# Altium integrated library Infineon_Transceiver.IntLib: 31 symbols (part 1 of 2)
Pins are listed as number, name and electrical type; pins without a type are passive.

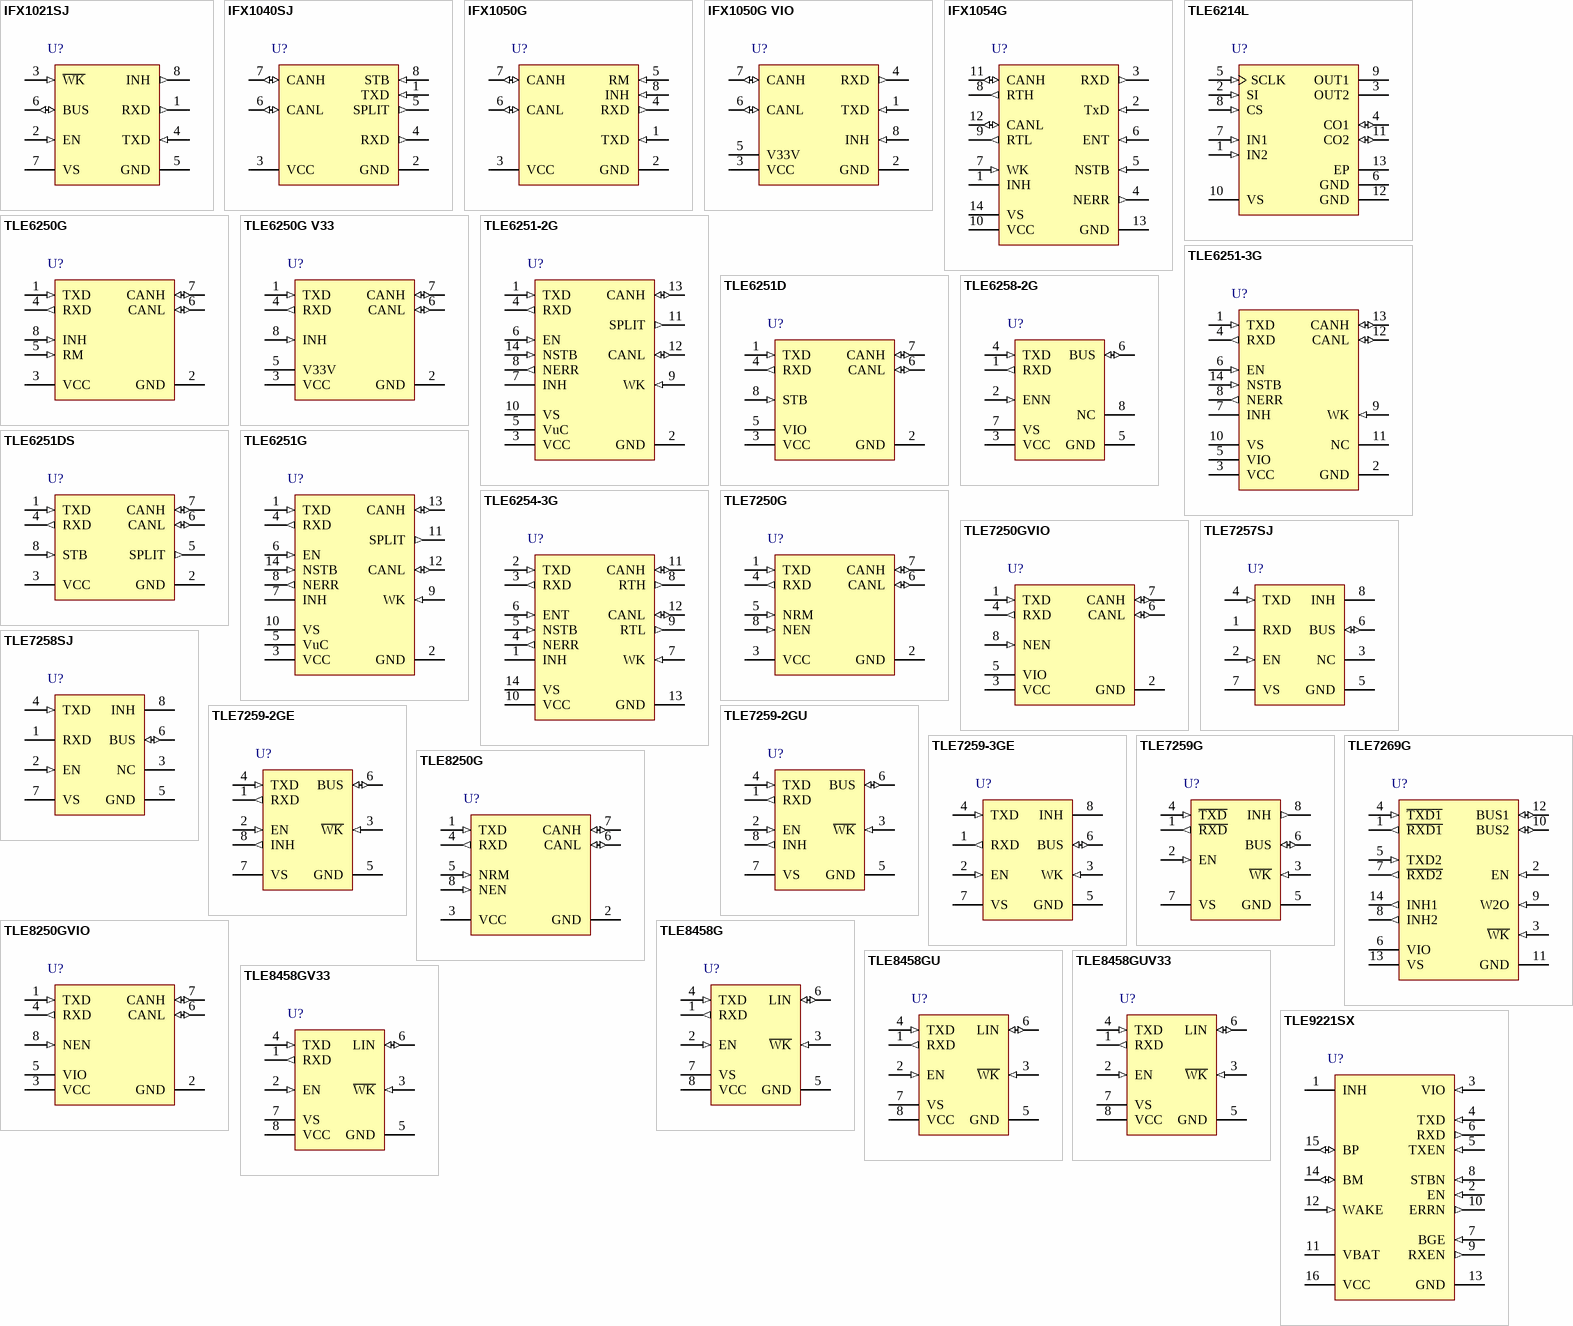
[diagram p0: symbols IFX1021SJ to TLE9221SX]

## IFX1021SJ
designator U?
LIN Transceiver, PG-DSO-8-16, Reel, Green; Manufacturer: Infineon; PartNumber: IFX1021SJ; Additional Features: INH, EN, WK; Bus Wake-up capability: TRUE; Max Number Reflow: 3; Max Peak Reflow Temp: 260 degC; Standards: LIN 1.2, 1.3, 2.0, 2.1; Transmission rate max: 20 kbit/s; Wake-up inputs: Bus wake-up + wake-up pin; DatasheetVersion: Rev. 1.0; PackageVersion: Mar-07; PackageReference: PG-DSO-8-16; PackageDescription: 8-Pin Plastic (Green) Dual Small Outline Package, 4.9 x 3.9 mm Body, 1.27 mm Pitch; Supplier 1: Mouser; Supplier Part Number 1: 726-IFX1021SJ; Supplier 2: Digi-Key; Supplier Part Number 2: IFX1021SJINTR-ND; Supplier 3: Digi-Key; Supplier Part Number 3: IFX1021SJINCT-ND; Supplier 4: Digi-Key; Supplier Part Number 4: IFX1021SJINDKR-ND; Green: TRUE; Halogen-free: TRUE; MSL: 3; Packing: Reel; Mounting Technology: Surface Mount; ComponentLink1Description: Manufacturer URL; ComponentLink1URL: http://www.infineon.com/; ComponentLink2Description: Datasheet; ComponentLink2URL: http://www.infineon.com/dgdl/IFX1021_DS_10.pdf?folderId=db3a30431ed1d7b2011edadb13813703&fileId=db3a304332b626b80132cf46319e674e; ComponentLink3Description: Package Specification; ComponentLink3URL: http://www.infineon.com/dgdl/TLE7259-2GE_DS_rev12.pdf?folderId=db3a3043163797a6011666d32a0c0de1&fileId=db3a3043163797a6011666d4dbb80de2&location=en.Products.Automotive_ICs.Automotive_Transceivers.LIN_Transceivers.DATASHEET.TLE7259-2GE_DS_rev12.pdf
footprint INF-PG-DSO-8-16_N (SOP, 8-Leads, Body 4.9x3.9mm, Pitch 1.27mm, IPC Medium Density)
footprint INF-PG-DSO-8-16_L (SOP, 8-Leads, Body 4.9x3.9mm, Pitch 1.27mm, IPC High Density)
footprint INF-PG-DSO-8-16_M (SOP, 8-Leads, Body 4.9x3.9mm, Pitch 1.27mm, IPC Low Density)
pins: 1 RXD (out) "Receive data output;", 2 EN (in) "Enable input;", 3 ~{WK} (in) "Wake input;", 4 TXD (in) "Transmit data input;", 5 GND (power) "Ground", 6 BUS (io) "Bus input / output;", 7 VS (power) "Supply input (e.g. battery, ACDC, DCDC, etc)", 8 INH (out) "Inhibit output;"

## IFX1040SJ
designator U?
High Speed CAN-Transceiver with Stand-By Mode and Bus Wake-up, PG-DSO-8-3, Reel, Green; Manufacturer: Infineon; PartNumber: IFX1040SJ; Additional Features: STB, WK, SPLIT; Bus Wake-up capability: TRUE; Max Number Reflow: 3; Max Peak Reflow Temp: 260 degC; Standards: ISO 11898-2/ISO11898-5; Transmission rate max: 1 Mbit/s; DatasheetVersion: Rev. 1.0; PackageReference: PG-DSO-8-3; PackageDescription: 8-Pin Plastic (Green) Dual Small Outline Package, 4.9 x 3.9 mm Body, 1.27 mm Pitch; Supplier 1: Digi-Key; Supplier Part Number 1: IFX1040SJTR-ND; Supplier 2: Digi-Key; Supplier Part Number 2: IFX1040SJCT-ND; Supplier 3: Digi-Key; Supplier Part Number 3: IFX1040SJDKR-ND; Green: TRUE; Halogen-free: TRUE; MSL: 3; Packing: Reel; Wake-up inputs: Bus wake-up; Mounting Technology: Surface Mount; ComponentLink1Description: Manufacturer URL; ComponentLink1URL: http://www.infineon.com/; ComponentLink2Description: Datasheet; ComponentLink2URL: http://www.infineon.com/dgdl/IFX1040_DS_10.pdf?folderId=db3a30431ed1d7b2011edadb13813703&fileId=db3a3043337a914d0133887bf12f10f8; ComponentLink3Description: Package Specification; ComponentLink3URL: http://www.infineon.com/cms/packages/SMD_-_Surface_Mounted_Devices/P-PG-DSO/P-PG-DSO-08-03x_-6x_-7x_-8x_-10x_-13x_-15x_-18x_-19x_-20x_-23.html?__locale=en
footprint INF-PG-DSO-8-3_N (SOP, 8-Leads, Body 4.9x3.9mm, Pitch 1.27mm, IPC Medium Density)
footprint INF-PG-DSO-8-3_L (SOP, 8-Leads, Body 4.9x3.9mm, Pitch 1.27mm, IPC High Density)
footprint INF-PG-DSO-8-3_M (SOP, 8-Leads, Body 4.9x3.9mm, Pitch 1.27mm, IPC Low Density)
pins: 1 TXD (in) "CAN transmit data input; 20 kohm pull-up, LOW in dominant state", 2 GND (power) "Ground", 3 VCC (power) "5 V Supply input; 100 nF decoupling capacitor required", 4 RXD (out) "CAN receive data output; LOW in dominant state,", 5 SPLIT (out) "Split termination output; to support the recessive voltage level of the bus lines", 6 CANL (io) "Low line I/O; LOW in dominant state", 7 CANH (io) "High line I/O; HIGH in dominant state", 8 STB (in) "Mode Control Input; Internal pull-up"

## IFX1050G
designator U?
High Speed CAN-Transceiver, PG-DSO-8-16, Reel, Green; Manufacturer: Infineon; PartNumber: IFX1050G; Additional Features: RM, INH; Bus Wake-up capability: FALSE; Green: TRUE; Max Number Reflow: 3; Max Peak Reflow Temp: 260 degC; Standards: ISO11898-2; Transmission rate max: 1 Mbit/s; DatasheetVersion: Rev. 1.0; PackageVersion: Mar-07; PackageReference: PG-DSO-8-16; PackageDescription: 8-Pin Plastic (Green) Dual Small Outline Package, 4.9 x 3.9 mm Body, 1.27 mm Pitch; Supplier 1: Mouser; Supplier Part Number 1: 726-IFX1050G; Supplier 2: Digi-Key; Supplier Part Number 2: IFX1050GINTR-ND; Supplier 3: Digi-Key; Supplier Part Number 3: IFX1050GINCT-ND; Supplier 4: Digi-Key; Supplier Part Number 4: IFX1050GINDKR-ND; Halogen-free: TRUE; MSL: 3; Packing: Reel; Wake-up inputs: FALSE; Mounting Technology: Surface Mount; ComponentLink1Description: Manufacturer URL; ComponentLink1URL: http://www.infineon.com/; ComponentLink2Description: Datasheet; ComponentLink2URL: http://www.infineon.com/dgdl/IFX1050G_DS_rev10.pdf?folderId=db3a30431ed1d7b2011edadb13813703&fileId=db3a304320d39d590121f374ea660d66; ComponentLink3Description: Package Specification; ComponentLink3URL: http://www.infineon.com/dgdl/TLE7259-2GE_DS_rev12.pdf?folderId=db3a3043163797a6011666d32a0c0de1&fileId=db3a3043163797a6011666d4dbb80de2&location=en.Products.Automotive_ICs.Automotive_Transceivers.LIN_Transceivers.DATASHEET.TLE7259-2GE_DS_rev12.pdf
footprint INF-PG-DSO-8-16_N (SOP, 8-Leads, Body 4.9x3.9mm, Pitch 1.27mm, IPC Medium Density)
footprint INF-PG-DSO-8-16_L (SOP, 8-Leads, Body 4.9x3.9mm, Pitch 1.27mm, IPC High Density)
footprint INF-PG-DSO-8-16_M (SOP, 8-Leads, Body 4.9x3.9mm, Pitch 1.27mm, IPC Low Density)
pins: 1 TXD (in) "CAN transmit data input; 20 kohm pull - up, “LOW” in dominant state", 2 GND (power) "Ground", 3 VCC (power) "5 V Supply input", 4 RXD (out) "CAN receive data output; “LOW” in dominant state, integrated pull - up", 5 RM (in) "Receive - Only input; control input, integrated 20 kohm pull - up, “LOW” to activate Receive - Only Mode", 6 CANL (io) "Low line I/O; “LOW” in dominant state", 7 CANH (io) "High line I/O; “HIGH” in dominant state", 8 INH (in) "Inhibit Input; control input, 20 kohm pull - up, “LOW” to activate Normal Mode"

## IFX1050G VIO
designator U?
High Speed CAN-Transceiver, PG-DSO-8-3, Reel, Green; Manufacturer: Infineon; PartNumber: IFX1050G VIO; Additional Features: INH; Bus Wake-up capability: FALSE; Green: TRUE; Max Number Reflow: 3; Max Peak Reflow Temp: 260 degC; Standards: ISO/DIS 11898; Transmission rate max: 1 Mbit/s; DatasheetVersion: Rev. 1.0; PackageReference: PG-DSO-8-3; PackageDescription: 8-Pin Plastic (Green) Dual Small Outline Package, 4.9 x 3.9 mm Body, 1.27 mm Pitch; Supplier 1: Mouser; Supplier Part Number 1: 726-IFX1050GVIO; Supplier 2: Digi-Key; Supplier Part Number 2: IFX1050G VIOINTR-ND; Supplier 3: Digi-Key; Supplier Part Number 3: IFX1050G VIOINCT-ND; Supplier 4: Digi-Key; Supplier Part Number 4: IFX1050G VIOINDKR-ND; Halogen-free: TRUE; MSL: 3; Packing: Reel; Wake-up inputs: FALSE; Mounting Technology: Surface Mount; ComponentLink1Description: Manufacturer URL; ComponentLink1URL: http://www.infineon.com/; ComponentLink2Description: Datasheet; ComponentLink2URL: http://www.infineon.com/dgdl/IFX1050GVIO_DS_10.pdf?folderId=db3a30431ed1d7b2011edadb13813703&fileId=db3a304330f68606013141d8eac7569f; ComponentLink3Description: Package Specification; ComponentLink3URL: http://www.infineon.com/cms/packages/SMD_-_Surface_Mounted_Devices/P-PG-DSO/P-PG-DSO-08-03x_-6x_-7x_-8x_-10x_-13x_-15x_-18x_-19x_-20x_-23.html?__locale=en
footprint INF-PG-DSO-8-3_N (SOP, 8-Leads, Body 4.9x3.9mm, Pitch 1.27mm, IPC Medium Density)
footprint INF-PG-DSO-8-3_L (SOP, 8-Leads, Body 4.9x3.9mm, Pitch 1.27mm, IPC High Density)
footprint INF-PG-DSO-8-3_M (SOP, 8-Leads, Body 4.9x3.9mm, Pitch 1.27mm, IPC Low Density)
pins: 1 TXD (in) "CAN transmit data input; 20 kohm pull-up, LOW in dominant state", 2 GND (power) "Ground", 3 VCC (power) "5 V Supply input", 4 RXD (out) "CAN receive data output; LOW in dominant state,integrated pull-up", 5 V33V (power) "Logic supply input; 3.3V or 5V microcontroller logic supply can be connected here! Thedigital I/Os of the IFX1050GVIO adopt to the connected microcontroller logic supply a V33V", 6 CANL (io) "Low line I/O; LOW in dominant state", 7 CANH (io) "High line I/O; HIGH in dominant state", 8 INH (in) "Inhibit Input; control input, 20 kohm pull, set LOW for normal mode"

## IFX1054G
designator U?
Fault Tolerant Low Speed CAN-Transceiver, PG-DSO-14-1, Reel, Green; Manufacturer: Infineon; PartNumber: IFX1054G; Additional Features: INH, NERR, NSTB, ENT, WK, RTL, RTH; Bus Wake-up capability: TRUE; Max Number Reflow: 3; Max Peak Reflow Temp: 260 degC; Standards: ISO11898-3; Transmission rate max: 125 kbit/s; Wake-up inputs: Bus wake-up + wake-up pin; DatasheetVersion: Rev. 1.0; PackageVersion: Apr-11; PackageReference: PG-DSO-14-1; PackageDescription: 14-Pin Plastic (Green) Dual Small Outline Package, 8.65 x 3.9 mm Body, 1.27 mm Pitch; Supplier 1: Mouser; Supplier Part Number 1: 726-IFX1054G; Supplier 2: Digi-Key; Supplier Part Number 2: IFX1054GINTR-ND; Supplier 3: Digi-Key; Supplier Part Number 3: IFX1054GINCT-ND; Supplier 4: Digi-Key; Supplier Part Number 4: IFX1054GINDKR-ND; Green: TRUE; Halogen-free: TRUE; MSL: 3; Packing: Reel; Mounting Technology: Surface Mount; ComponentLink1Description: Manufacturer URL; ComponentLink1URL: http://www.infineon.com/; ComponentLink2Description: Datasheet; ComponentLink2URL: http://www.infineon.com/dgdl/IFX1054_DS_rev10.pdf?folderId=db3a30431ed1d7b2011edadb13813703&fileId=db3a304320d39d590121f37681d90d6b; ComponentLink3Description: Package Specification; ComponentLink3URL: http://www.infineon.com/dgdl/DCDC-Controller-IFX80471-Data-Sheet-V10-Infineon.pdf?folderId=db3a304314dca3890115039cf70d0bf0&fileId=db3a30432e398416012e487ec6e42599
footprint INF-PG-DSO-14-1_N (SOP, 14-Leads, Body 8.65x3.9mm, Pitch 1.27mm, IPC Medium Density)
footprint INF-PG-DSO-14-1_L (SOP, 14-Leads, Body 8.65x3.9mm, Pitch 1.27mm, IPC High Density)
footprint INF-PG-DSO-14-1_M (SOP, 14-Leads, Body 8.65x3.9mm, Pitch 1.27mm, IPC Low Density)
pins: 1 INH (hiz) "Inhibit output; for controlling an external voltage regulator", 2 TxD (in) "Transmit data input; integrated pull -up, LOW: bus becomes dominant, HIGH: bus becomes recessive", 3 RXD (out) "Receive data output; integrated pull -up, LOW: bus is dominant, HIGH: bus is recessive", 4 NERR (out) "Error flag output; integrated pull -up, LOW: bus error (in Normal operation mode), further functions see Table 1", 5 NSTB (in) "Not stand-by input; digital control input to select operation modes, see Figure 3", 6 ENT (in) "Enable transfer input; digital control input to select operation modes, see Figure 3", 7 WK (in) "Wake -Up input; if level of VWAKE changes the device indicates a Wake -up from lowpower mode by switching the RxD output LOW and switching the INH output HIGH (in Sleep mode), see Table 1", 8 RTH (out) "Termination resistor output; connected to CANH bus-line via termination resistor (500 kohm < RRTH < 16 kkohm), controlled by internal failure management", 9 RTL (out) "Termination resistor output; connected to CANL bus-line via termination resistor (500 kohm < RRTL < 16 kkohm), controlled by internal failure and mode management", 10 VCC (power) "Supply voltage input; +5 V, block to GND directly at the IC with ceramic capacitor", 11 CANH (io) "CAN bus line H; HIGH: dominant state", 12 CANL (io) "CAN bus line L; LOW: dominant state", 13 GND (power) "Ground", 14 VS (power) "Voltage supply input; block to GND directly at the IC with ceramic capacitor"

## TLE6214L
designator U?
Smart Dual Current Sense Switch , -40 to 150 degC, PG-DSO-12-4, Reel, Green; Manufacturer: Infineon; PartNumber: TLE6214L; Green: TRUE; DatasheetVersion: Rev. 3.0; PackageVersion: Sep-08; PackageReference: PG-DSO-12-4; PackageDescription: 12-Pin Plastic (Green) Dual Small Outline Package, 6.4 x 7.5 mm Body, 1 mm Pitch; Supplier 1: Mouser; Supplier Part Number 1: N/A; Supplier 2: Digi-Key; Supplier Part Number 2: TLE6214L-ND; Halogen-free: TRUE; Packing: Reel; Mounting Technology: Surface Mount; ComponentLink1Description: Manufacturer URL; ComponentLink1URL: http://www.infineon.com/; ComponentLink2Description: Datasheet; ComponentLink2URL: http://www.infineon.com/dgdl/TLE6214L_V3_10_18_2004_final.pdf?folderId=db3a30431441fb5d0114ad10c65b1537&fileId=db3a304314dca3890114df1af9110010&sId=db3a30443d67b5ca013d7f4959342b74; ComponentLink3Description: Package Specification; ComponentLink3URL: http://www.infineon.com/dgdl/TLE4473GV52-53_DS_11%5B1%5D.pdf?folderId=db3a30431ff988150120802bce1d257a&fileId=db3a30431ff988150120802d92102580&location=en.Products.Automotive_ICs.Linear_Voltage_Regulators_for_Automotive-Applications.Linear_Voltage_Regulators_-_Selection_Table.DATASHEET.TLE4473GV52-53_DS_11[1].pdf
footprint INF-PG-DSO-12-4_N (SOP, 12-Leads, Body 7.5x6.4mm, Pitch 1mm, Thermal Pad 7.9x4.3mm, IPC Medium Density)
footprint INF-PG-DSO-12-4_L (SOP, 12-Leads, Body 7.5x6.4mm, Pitch 1mm, Thermal Pad 7.9x4.3mm, IPC High Density)
footprint INF-PG-DSO-12-4_M (SOP, 12-Leads, Body 7.5x6.4mm, Pitch 1mm, Thermal Pad 7.9x4.3mm, IPC Low Density)
pins: 1 IN2 (in) "Input Channel 2", 2 SI (in) "SPI Signal In", 3 OUT2 (power) "Power Output Channel 2", 4 CO1 (io) "Current Sense 1/2 / Fault / Status Ch1", 5 SCLK (in) "SPI Clock", 6 GND (power) "Ground", 7 IN1 (in) "Input Channel 1", 8 CS (in) "SPI Chip Select", 9 OUT1 (power) "Power Output Channel 1", 10 VS (power) "Supply Voltage", 11 CO2 (io) "SPI Signal Out / Status Ch2", 12 GND (power) "Ground", 13 EP (power) "Both GND pins and heat sink must be  connected to GND externally."

## TLE6250G
designator U?
High Speed CAN-Transceiver, 1 Mbit/s Transmission Rate, PG-DSO-8-16, Reel, Green; Manufacturer: Infineon; PartNumber: TLE6250G; Bus Wake-up capability: FALSE; Green: TRUE; Quiescent Current (max.): < 10 uA @ 5V standby; Standards: ISO11898-2; Wake-up inputs: no; DatasheetVersion: Rev. 4.0; PackageVersion: Mar-07; PackageReference: PG-DSO-8-16; PackageDescription: 8-Pin Plastic (Green) Dual Small Outline Package, 4.9 x 3.9 mm Body, 1.27 mm Pitch; Supplier 1: Mouser; Supplier Part Number 1: 726-TLE6250GX; Supplier 2: Newark; Supplier Part Number 2: 79X2064; Supplier 3: Farnell; Supplier Part Number 3: 2432693; Supplier 4: Farnell; Supplier Part Number 4: 2432693RL; Supplier 5: Digi-Key; Supplier Part Number 5: TLE6250GINTR-ND; Supplier 6: Digi-Key; Supplier Part Number 6: TLE6250GINCT-ND; Supplier 7: Digi-Key; Supplier Part Number 7: TLE6250GINDKR-ND; Group: High Speed; Halogen-free: TRUE; Packing: Reel; Transmission rate max: 1 Mbit/s; Mounting Technology: Surface Mount; ComponentLink1Description: Manufacturer URL; ComponentLink1URL: http://www.infineon.com/; ComponentLink2Description: Datasheet; ComponentLink2URL: http://www.infineon.com/dgdl/TLE6250G_DS_rev40_Green%5B1%5D.pdf?folderId=db3a30431ed1d7b2011edadb13813703&fileId=db3a30431ed1d7b2011edadbb20d3704&location=en.Products.Automotive_ICs.Automotive_Transceivers.CAN_Transceivers.DATASHEET.TLE6250G_DS_rev40_Green[1].pdf; ComponentLink3Description: Package Specification; ComponentLink3URL: http://www.infineon.com/dgdl/TLE7259-2GE_DS_rev12.pdf?folderId=db3a3043163797a6011666d32a0c0de1&fileId=db3a3043163797a6011666d4dbb80de2&location=en.Products.Automotive_ICs.Automotive_Transceivers.LIN_Transceivers.DATASHEET.TLE7259-2GE_DS_rev12.pdf
footprint INF-PG-DSO-8-16_N (SOP, 8-Leads, Body 4.9x3.9mm, Pitch 1.27mm, IPC Medium Density)
footprint INF-PG-DSO-8-16_L (SOP, 8-Leads, Body 4.9x3.9mm, Pitch 1.27mm, IPC High Density)
footprint INF-PG-DSO-8-16_M (SOP, 8-Leads, Body 4.9x3.9mm, Pitch 1.27mm, IPC Low Density)
pins: 1 TXD (in) "CAN transmit data input; 20 k ohm pull-up, LOW in dominant state", 2 GND (power) "Ground", 3 VCC (power) "5 V Supply input", 4 RXD (out) "CAN receive data output; LOW in dominant state,integrated pull-up", 5 RM (in) "Receive-only input; control input, 20 k ohm pull-up, set low to activate RxD-only mode", 6 CANL (io) "Low line I/O; LOW in dominant state", 7 CANH (io) "High line I/O; HIGH in dominant state", 8 INH (in) "Inhibit Input; control input, 20 k ohm pull, set LOW for normal mode"

## TLE6250G V33
designator U?
High Speed CAN-Transceiver, 1 Mbit/s Transmission Rate, PG-DSO-8-16, Reel, Green; Manufacturer: Infineon; PartNumber: TLE6250G V33; Bus Wake-up capability: FALSE; Green: TRUE; Quiescent Current (max.): < 10 uA @ 5V standby; Standards: ISO11898-2; Wake-up inputs: no; DatasheetVersion: Rev. 4.0; PackageVersion: Mar-07; PackageReference: PG-DSO-8-16; PackageDescription: 8-Pin Plastic (Green) Dual Small Outline Package, 4.9 x 3.9 mm Body, 1.27 mm Pitch; Supplier 1: Mouser; Supplier Part Number 1: 726-TLE6250GV33; Supplier 2: Newark; Supplier Part Number 2: 79X2065; Supplier 3: Farnell; Supplier Part Number 3: 2432692RL; Supplier 4: Farnell; Supplier Part Number 4: 2432692; Supplier 5: Digi-Key; Supplier Part Number 5: TLE6250GV33INTR-ND; Supplier 6: Digi-Key; Supplier Part Number 6: TLE6250GV33INCT-ND; Supplier 7: Digi-Key; Supplier Part Number 7: TLE6250GV33INDKR-ND; Group: High Speed; Halogen-free: TRUE; Packing: Reel; Transmission rate max: 1 Mbit/s; Mounting Technology: Surface Mount; ComponentLink1Description: Manufacturer URL; ComponentLink1URL: http://www.infineon.com/; ComponentLink2Description: Datasheet; ComponentLink2URL: http://www.infineon.com/dgdl/TLE6250G_DS_rev40_Green%5B1%5D.pdf?folderId=db3a30431ed1d7b2011edadb13813703&fileId=db3a30431ed1d7b2011edadbb20d3704&location=en.Products.Automotive_ICs.Automotive_Transceivers.CAN_Transceivers.DATASHEET.TLE6250G_DS_rev40_Green[1].pdf; ComponentLink3Description: Package Specification; ComponentLink3URL: http://www.infineon.com/dgdl/TLE7259-2GE_DS_rev12.pdf?folderId=db3a3043163797a6011666d32a0c0de1&fileId=db3a3043163797a6011666d4dbb80de2&location=en.Products.Automotive_ICs.Automotive_Transceivers.LIN_Transceivers.DATASHEET.TLE7259-2GE_DS_rev12.pdf
footprint INF-PG-DSO-8-16_N (SOP, 8-Leads, Body 4.9x3.9mm, Pitch 1.27mm, IPC Medium Density)
footprint INF-PG-DSO-8-16_L (SOP, 8-Leads, Body 4.9x3.9mm, Pitch 1.27mm, IPC High Density)
footprint INF-PG-DSO-8-16_M (SOP, 8-Leads, Body 4.9x3.9mm, Pitch 1.27mm, IPC Low Density)
pins: 1 TXD (in) "CAN transmit data input; 20 k ohm pull-up, LOW in dominant state", 2 GND (power) "Ground", 3 VCC (power) "5 V Supply input", 4 RXD (out) "CAN receive data output; LOW in dominant state, integrated pull-up", 5 V33V (power) "Logic supply input;3.3 V OR 5 V microcontroller logic supply can be connected here! The digital I/Os of the TLE6250GV33 adopt to the connected microcontroller logic supply at V33V", 6 CANL (io) "Low line I/O; LOW in dominant state", 7 CANH (io) "High line I/O; HIGH in dominant state", 8 INH (in) "Inhibit Input; control input, 20 k ohm pull, set LOW for normal mode"

## TLE6251-2G
designator U?
High Speed CAN-Transceiver with Wake and Failure Detection, 1 Mbit/s Transmission Rate, PG-DSO-14-24, Reel, Green; Manufacturer: Infineon; PartNumber: TLE6251-2G; Bus Wake-up capability: TRUE; Quiescent Current (max.): < 30 uA @ 5V standby; Standards: ISO11898-5; Wake-up inputs: Bus wake-up + wake-up pin; DatasheetVersion: Rev. 1.1; PackageVersion: Jun-11; PackageReference: PG-DSO-14-24; PackageDescription: 14-Pin Plastic (Green) Dual Small Outline Package, 8.65 x 3.9 mm Body, 1.27 mm Pitch; Supplier 1: Mouser; Supplier Part Number 1: 726-TLE6251-2G; Supplier 2: Digi-Key; Supplier Part Number 2: TLE6251-2GTR-ND; Supplier 3: Digi-Key; Supplier Part Number 3: TLE6251-2GCT-ND; Supplier 4: Digi-Key; Supplier Part Number 4: TLE6251-2GDKR-ND; Green: TRUE; Group: High Speed; Halogen-free: TRUE; Packing: Reel; Transmission rate max: 1 Mbit/s; Mounting Technology: Surface Mount; ComponentLink1Description: Manufacturer URL; ComponentLink1URL: http://www.infineon.com/; ComponentLink2Description: Datasheet; ComponentLink2URL: http://www.infineon.com/dgdl/TLE6251-2G_DS_rev11.pdf?folderId=db3a3043163797a6011666d32a0c0de1&fileId=db3a304320d39d5901215451b99c05dc&location=en.Products.Automotive_ICs.Automotive_Transceivers.CAN_Transceivers.DATASHEET.TLE6251-2G_DS_rev11.pdf; ComponentLink3Description: Package Specification; ComponentLink3URL: http://www.infineon.com/dgdl/TLE6251-3G_DS_rev11.pdf?folderId=db3a30431ed1d7b2011edadb13813703&fileId=db3a30433072cd8f0130746653050039&sId=db3a30443d67b5ca013d7f4322262b6a
footprint INF-PG-DSO-14-24_N (SOP, 14-Leads, Body 8.65x3.9mm, Pitch 1.27mm, IPC Medium Density)
footprint INF-PG-DSO-14-24_L (SOP, 14-Leads, Body 8.65x3.9mm, Pitch 1.27mm, IPC High Density)
footprint INF-PG-DSO-14-24_M (SOP, 14-Leads, Body 8.65x3.9mm, Pitch 1.27mm, IPC Low Density)
pins: 1 TXD (in) "Transmit Data Input; integrated pull-up resistor to VIO, low for dominant state.", 2 GND (power) "Ground", 3 VCC (power) "Transceiver Supply Voltage; 100 nF decoupling capacitor to GND recommend", 4 RXD (out) "Receive Data Output; low in dominant state. Output voltage level dependent on the VIO supply", 5 VuC (power) "Logic Supply Voltage; Digital Supply Voltage for the logic pins TxD, RxD, EN, NERR and NSTB; Usually connected to the supply voltage of the external microcontroller; 100 nF decoupling capacitor to GND recommend.", 6 EN (in) "Mode Control Input; Integrated pull-down resistor; high for Normal Operation mode.", 7 INH (hiz) "Inhibit Output; Open drain output to control external circuitry; High impedance in Sleep mode", 8 NERR (out) "Error Flag Output; Failure and Wake-Up indication output, active low Output voltage level depends on the VIO supply", 9 WK (in) "Wake-Up Input; Local Wake-Up input; Wake-Up input sensitive to a level change in both directions, high to low and vice versa.", 10 VS (power) "Battery Voltage Supply; 100 nF decoupling capacitor to GND recommend.", 11 SPLIT (out) "Split Termination Output; Stabilization output to support the recessive voltage level of the CAN bus lines.", 12 CANL (io) "CAN Bus Low Level I/O; low in dominant state", 13 CANH (io) "CAN Bus High Level I/O; high in dominant state", 14 NSTB (in) "Stand-By Control input; Integrated pull-down resistor; high for Normal Operation mode."

## TLE6251-3G
designator U?
High Speed CAN-Transceiver with Wake and Failure Detection, 1 Mbit/s Transmission Rate, PG-DSO-14-24, Reel, Green; Manufacturer: Infineon; PartNumber: TLE6251-3G; Bus Wake-up capability: TRUE; Quiescent Current (max.): < 30 uA @ 5V standby; Standards: ISO11898-5; Wake-up inputs: Bus wake-up + wake-up pin; DatasheetVersion: Rev. 1.1; PackageVersion: Jun-11; PackageReference: PG-DSO-14-24; PackageDescription: 14-Pin Plastic (Green) Dual Small Outline Package, 8.65 x 3.9 mm Body, 1.27 mm Pitch; Supplier 1: Mouser; Supplier Part Number 1: 726-TLE6251-3G; Supplier 2: Digi-Key; Supplier Part Number 2: TLE6251-3GTR-ND; Supplier 3: Digi-Key; Supplier Part Number 3: TLE6251-3GCT-ND; Supplier 4: Digi-Key; Supplier Part Number 4: TLE6251-3GDKR-ND; Green: TRUE; Group: High Speed; Halogen-free: TRUE; Packing: Reel; Transmission rate max: 1 Mbit/s; Mounting Technology: Surface Mount; ComponentLink1Description: Manufacturer URL; ComponentLink1URL: http://www.infineon.com/; ComponentLink2Description: Datasheet; ComponentLink2URL: http://www.infineon.com/dgdl/TLE6251-3G_DS_rev11.pdf?folderId=db3a30431ed1d7b2011edadb13813703&fileId=db3a30433072cd8f0130746653050039&location=en.Products.Automotive_ICs.Automotive_Transceivers.CAN_Transceivers.DATASHEET.TLE6251-3G_DS_rev11.pdf; ComponentLink3Description: Package Specification; ComponentLink3URL: http://www.infineon.com/dgdl/TLE6251-3G_DS_rev11.pdf?folderId=db3a30431ed1d7b2011edadb13813703&fileId=db3a30433072cd8f0130746653050039&sId=db3a30443d67b5ca013d7f4322262b6a
footprint INF-PG-DSO-14-24_N (SOP, 14-Leads, Body 8.65x3.9mm, Pitch 1.27mm, IPC Medium Density)
footprint INF-PG-DSO-14-24_L (SOP, 14-Leads, Body 8.65x3.9mm, Pitch 1.27mm, IPC High Density)
footprint INF-PG-DSO-14-24_M (SOP, 14-Leads, Body 8.65x3.9mm, Pitch 1.27mm, IPC Low Density)
pins: 1 TXD (in) "Transmit Data Input; integrated pull-up resistor to VIO,Low for Dominant state.", 2 GND (power) "Ground", 3 VCC (power) "Transceiver Supply Voltage; 100 nF decoupling capacitor to GND recommend", 4 RXD (out) "Receive Data Output; Low  in Dominant state. Output voltage level dependent on the VIO supply", 5 VIO (power) "Logic Supply Voltage; Digital Supply Voltage for the logic pins TxD, RxD, EN, NERR and NSTB; Usually connected to the supply voltage of the external microcontroller; 100 nF decoupling capacitor to GND recommend.", 6 EN (in) "Mode Control Input; Integrated pull-down resistor; High for Normal Operation mode.", 7 INH (hiz) "Inhibit Output; Open drain output to control external circuitry; High impedance in Sleep mode", 8 NERR (out) "Error Flag Output; Failure and Wake-Up indication output, active Low  Output voltage level depends on the VIO supply", 9 WK (in) "Wake-Up Input; Local Wake-Up input; Wake-Up input sensitive to a level change in both directions,High to Low and vice versa.", 10 VS (power) "Battery Voltage Supply; 100 nF decoupling capacitor to GND recommend.", 11 NC "Not Connected", 12 CANL (io) "CAN Bus Low Level I/O; Low in Dominant state", 13 CANH (io) "CAN Bus High Level I/O; High  in Dominant state", 14 NSTB (in) "Stand-By Control input; Integrated pull-down resistor; High for Normal Operation mode."

## TLE6251D
designator U?
High Speed CAN-Transceiver with Bus Wake-up, 1 Mbit/s Transmission Rate, PG-DSO-8-16, Reel, Green; Manufacturer: Infineon; PartNumber: TLE6251D; Bus Wake-up capability: TRUE; Quiescent Current (max.): < 30 uA @ 5V standby; Standards: ISO11898-5; DatasheetVersion: Rev. 1.0; PackageVersion: Mar-07; PackageReference: PG-DSO-8-16; PackageDescription: 8-Pin Plastic (Green) Dual Small Outline Package, 4.9 x 3.9 mm Body, 1.27 mm Pitch; Supplier 1: Digi-Key; Supplier Part Number 1: TLE6251DTR-ND; Supplier 2: Digi-Key; Supplier Part Number 2: TLE6251DCT-ND; Supplier 3: Digi-Key; Supplier Part Number 3: TLE6251DDKR-ND; Green: TRUE; Group: High Speed; Halogen-free: TRUE; Packing: Reel; Transmission rate max: 1 Mbit/s; Wake-up inputs: Bus wake-up; Mounting Technology: Surface Mount; ComponentLink1Description: Manufacturer URL; ComponentLink1URL: http://www.infineon.com/; ComponentLink2Description: Datasheet; ComponentLink2URL: http://www.infineon.com/dgdl/TLE6251D_DS_rev10.pdf?folderId=db3a30431ed1d7b2011edadb13813703&fileId=db3a30433899edae0138dce545e317bc&location=en.Products.Automotive_ICs.Automotive_Transceivers.CAN_Transceivers.DATASHEET.TLE6251D_DS_rev10.pdf; ComponentLink3Description: Package Specification; ComponentLink3URL: http://www.infineon.com/dgdl/TLE7259-2GE_DS_rev12.pdf?folderId=db3a3043163797a6011666d32a0c0de1&fileId=db3a3043163797a6011666d4dbb80de2&location=en.Products.Automotive_ICs.Automotive_Transceivers.LIN_Transceivers.DATASHEET.TLE7259-2GE_DS_rev12.pdf
footprint INF-PG-DSO-8-16_N (SOP, 8-Leads, Body 4.9x3.9mm, Pitch 1.27mm, IPC Medium Density)
footprint INF-PG-DSO-8-16_L (SOP, 8-Leads, Body 4.9x3.9mm, Pitch 1.27mm, IPC High Density)
footprint INF-PG-DSO-8-16_M (SOP, 8-Leads, Body 4.9x3.9mm, Pitch 1.27mm, IPC Low Density)
pins: 1 TXD (in) "Transmit Data Input;internal pull-up to VIO, "Low" for "Dominant" state.", 2 GND (power) "Ground", 3 VCC (power) "Transceiver Supply Voltage;100 nF decoupling capacitor to GND required, VCC can be turned off in stand-by mode.", 4 RXD (out) "Receive Data Output;"Low" in “Dominant” state.", 5 VIO (power) "Digital Supply Voltage Input;supply voltage input to adapt the logical input and output voltage levels of the transceiver to the microcontroller supply. Supply for the low-power receiver. 100nF decoupling capacitor to GND (See Datasheet)", 6 CANL (io) "CAN Bus Low level I/O;"Low " in "Dominant" state.", 7 CANH (io) "CAN Bus High level I/O;"High" in "Dominant" state.", 8 STB (in) "Stand-by Input; internal pull-up to VIO, "low"for normal-operating mode."

## TLE6251DS
designator U?
High Speed CAN-Transceiver with Bus Wake-up, 1 Mbit/s Transmission Rate, PG-DSO-8-16, Reel, Green; Manufacturer: Infineon; PartNumber: TLE6251DS; Bus Wake-up capability: TRUE; Quiescent Current (max.): < 30 uA @ 5V standby; Standards: ISO11898-5; DatasheetVersion: Rev. 3.1; PackageVersion: Mar-07; PackageReference: PG-DSO-8-16; PackageDescription: 8-Pin Plastic (Green) Dual Small Outline Package, 4.9 x 3.9 mm Body, 1.27 mm Pitch; Supplier 1: Mouser; Supplier Part Number 1: 726-TLE6251DS; Supplier 2: Newark; Supplier Part Number 2: 79X2066; Supplier 3: Farnell; Supplier Part Number 3: 2432694RL; Supplier 4: Farnell; Supplier Part Number 4: 2432694; Supplier 5: Digi-Key; Supplier Part Number 5: TLE6251DSTR-ND; Supplier 6: Digi-Key; Supplier Part Number 6: TLE6251DSCT-ND; Supplier 7: Digi-Key; Supplier Part Number 7: TLE6251DSDKR-ND; Green: TRUE; Group: High Speed; Halogen-free: TRUE; Packing: Reel; Transmission rate max: 1 Mbit/s; Wake-up inputs: Bus wake-up; Mounting Technology: Surface Mount; ComponentLink1Description: Manufacturer URL; ComponentLink1URL: http://www.infineon.com/; ComponentLink2Description: Datasheet; ComponentLink2URL: http://www.infineon.com/dgdl/TLE6251DS_DS_rev31_Green%5B1%5D.pdf?folderId=db3a30431ed1d7b2011edadb13813703&fileId=db3a30431ed1d7b2011edae4d0023718&location=en.Products.Automotive_ICs.Automotive_Transceivers.CAN_Transceivers.DATASHEET.TLE6251DS_DS_rev31_Green[1].pdf; ComponentLink3Description: Package Specification; ComponentLink3URL: http://www.infineon.com/dgdl/TLE7259-2GE_DS_rev12.pdf?folderId=db3a3043163797a6011666d32a0c0de1&fileId=db3a3043163797a6011666d4dbb80de2&location=en.Products.Automotive_ICs.Automotive_Transceivers.LIN_Transceivers.DATASHEET.TLE7259-2GE_DS_rev12.pdf
footprint INF-PG-DSO-8-16_N (SOP, 8-Leads, Body 4.9x3.9mm, Pitch 1.27mm, IPC Medium Density)
footprint INF-PG-DSO-8-16_L (SOP, 8-Leads, Body 4.9x3.9mm, Pitch 1.27mm, IPC High Density)
footprint INF-PG-DSO-8-16_M (SOP, 8-Leads, Body 4.9x3.9mm, Pitch 1.27mm, IPC Low Density)
pins: 1 TXD (in) "CAN transmit data input; 20 k ohm pull-up, LOW in dominant state", 2 GND (power) "Ground", 3 VCC (power) "5 V supply input; block to GND with 100 nF ceramic capacitor", 4 RXD (out) "CAN receive data output; LOW in dominant state", 5 SPLIT (out) "Split termination output; to support the recessive voltage level of the bus lines.", 6 CANL (io) "Low line input; LOW in dominant state", 7 CANH (io) "High line output; HIGH in dominant state", 8 STB (in) "Mode control input; internal pull-up, see Figure 3"

## TLE6251G
designator U?
High Speed CAN-Transceiver with Wake Detection, 1 Mbit/s Transmission Rate, P-DSO-14-13, Reel; Manufacturer: Infineon; PartNumber: TLE6251G; Bus Wake-up capability: TRUE; Quiescent Current (max.): < 30 uA @ 5V standby; Standards: ISO11898-5; Wake-up inputs: Bus wake-up + wake-up pin; DatasheetVersion: Rev. 3.3; PackageVersion: Jun-08; PackageReference: P-DSO-14-13; PackageDescription: 14-Pin Plastic Dual Small Outline Package, 8.69 x 4 mm Body, 1.27 mm Pitch; Supplier 1: Mouser; Supplier Part Number 1: 726-TLE6251G; Supplier 2: Digi-Key; Supplier Part Number 2: TLE6251G-ND; Group: High Speed; Packing: Reel; Transmission rate max: 1 Mbit/s; Mounting Technology: Surface Mount; ComponentLink1Description: Manufacturer URL; ComponentLink1URL: http://www.infineon.com/; ComponentLink2Description: Datasheet; ComponentLink2URL: http://www.infineon.com/dgdl/TLE6251G_DS_rev33.pdf?folderId=db3a30431ed1d7b2011edadb13813703&fileId=db3a30431f848401011fef88b391487e&location=en.Products.Automotive_ICs.Automotive_Transceivers.CAN_Transceivers.DATASHEET.TLE6251G_DS_rev33.pdf; ComponentLink3Description: Package Specification; ComponentLink3URL: http://www.infineon.com/dgdl/TLE6251G_DS_rev33.pdf?folderId=db3a30431ed1d7b2011edadb13813703&fileId=db3a30431f848401011fef88b391487e&sId=db3a30433d68e984013d7daab5725e3c
footprint INF-P-DSO-14-13_N (SOP, 14-Leads, Body 8.69x4mm, Pitch 1.27mm, IPC Medium Density)
footprint INF-P-DSO-14-13_L (SOP, 14-Leads, Body 8.69x4mm, Pitch 1.27mm, IPC High Density)
footprint INF-P-DSO-14-13_M (SOP, 14-Leads, Body 8.69x4mm, Pitch 1.27mm, IPC Low Density)
pins: 1 TXD (in) "CAN transmit data input; 20 k ohm pull-up, LOW in dominant state", 2 GND (power) "Ground", 3 VCC (power) "5 V supply input; block to GND with 100 nF ceramic capacitor", 4 RXD (out) "CAN receive data output; LOW in dominant state, push-pull output  stage", 5 VuC (power) "Logic voltage level adapter input; connect to pin VCC  for 5 V  microcontroller, connect to additional supply voltage for other logic  voltage levels, block to GND with 100 nF ceramic capacitor", 6 EN (in) "Mode control input 1; internal pull-down", 7 INH (oc) "Control output; set HIGH to activate voltage regulator; open drain", 8 NERR (out) "Diagnosis output 1; error and power on indication output, push-pull  output stage", 9 WK (in) "Wake-up input; bi-level sensitive", 10 VS (power) "Battery voltage supply input; block to GND with 100 nF ceramic  capacitor", 11 SPLIT (out) "Termination output; to support the recessive voltage level of the bus  lines", 12 CANL (io) "Low line output; LOW in dominant state", 13 CANH (io) "High line output; HIGH in dominant state", 14 NSTB (in) "Mode control input 2; internal pull-down"

## TLE6254-3G
designator U?
Fault Tolerant Low Speed CAN-Transceiver, 125 kbit/s Transmission Rate, PG-DSO-14-1, Reel, Green; Manufacturer: Infineon; PartNumber: TLE6254-3G; Bus Wake-up capability: TRUE; Quiescent Current (max.): < 65 uA sleep mode; Standards: ISO11898-3; Wake-up inputs: Bus wake-up + wake-up pin; DatasheetVersion: Rev. 2.1; PackageVersion: Apr-11; PackageReference: PG-DSO-14-1; PackageDescription: 14-Pin Plastic (Green) Dual Small Outline Package, 8.65 x 3.9 mm Body, 1.27 mm Pitch; Supplier 1: Mouser; Supplier Part Number 1: 726-TLE62543G; Supplier 2: Digi-Key; Supplier Part Number 2: TLE6254-3GTR-ND; Supplier 3: Digi-Key; Supplier Part Number 3: TLE6254-3GCT-ND; Supplier 4: Digi-Key; Supplier Part Number 4: TLE6254-3GDKR-ND; Green: TRUE; Group: Low Speed; Halogen-free: TRUE; Packing: Reel; Transmission rate max: 125 kbit/s; Mounting Technology: Surface Mount; ComponentLink1Description: Manufacturer URL; ComponentLink1URL: http://www.infineon.com/; ComponentLink2Description: Datasheet; ComponentLink2URL: http://www.infineon.com/dgdl/TLE6254-3G_DS_rev21_Green%5B1%5D.pdf?folderId=db3a30431ed1d7b2011edadb13813703&fileId=db3a30431ed1d7b2011edaee1d65372b&location=en.Products.Automotive_ICs.Automotive_Transceivers.CAN_Transceivers.DATASHEET.TLE6254-3G_DS_rev21_Green[1].pdf; ComponentLink3Description: Package Specification; ComponentLink3URL: http://www.infineon.com/dgdl/DCDC-Controller-IFX80471-Data-Sheet-V10-Infineon.pdf?folderId=db3a304314dca3890115039cf70d0bf0&fileId=db3a30432e398416012e487ec6e42599
footprint INF-PG-DSO-14-1_N (SOP, 14-Leads, Body 8.65x3.9mm, Pitch 1.27mm, IPC Medium Density)
footprint INF-PG-DSO-14-1_L (SOP, 14-Leads, Body 8.65x3.9mm, Pitch 1.27mm, IPC High Density)
footprint INF-PG-DSO-14-1_M (SOP, 14-Leads, Body 8.65x3.9mm, Pitch 1.27mm, IPC Low Density)
pins: 1 INH (hiz) "Inhibit output; for controlling an external voltage regulator", 2 TXD (in) "Transmit data input; integrated pull-up, LOW: bus becomes dominant, HIGH: bus becomes recessive", 3 RXD (out) "Receive data output; integrated pull-up, LOW: bus is dominant, HIGH: bus is recessive", 4 NERR (out) "Error flag output; integrated pull-up, LOW: bus error (in normal operation mode), further functions see Table 2", 5 NSTB (in) "Not stand-by input; digital control input to select operation modes, see Figure 4", 6 ENT (in) "Enable transfer input; digital control input to select operation modes, see Figure 4", 7 WK (in) "Wake-Up input; if level of VWAKE changes the device indicates a wake-up from low power mode by switching the RxD outputs LOW and switching the INH output HIGH (in sleep mode), see Table 2", 8 RTH (out) "Termination resistor output; connected to CANH bus-line via termination resistor (500 ohm < RRTH < 16 k ohm), controlled by internal failure management", 9 RTL (out) "Termination resistor output; connected to CANL bus-line via termination resistor (500 ohm < RRTL < 16 k ohm), controlled by internal failure and mode management", 10 VCC (power) "Supply voltage input; +5 V, block to GND directly at the IC with ceramic capacitor", 11 CANH (io) "CAN bus line H; HIGH: dominant state", 12 CANL (io) "CAN bus line L; LOW: dominant state", 13 GND (power) "Ground", 14 VS (power) "Battery voltage supply input; block to GND directly at the IC with ceramic capacitor"

## TLE6258-2G
designator U?
LIN Transceiver, 20 kbit/s Transmission Rate, PG-DSO-8-16, Reel, Green; Manufacturer: Infineon; PartNumber: TLE6258-2G; Bus Wake-up capability: TRUE; Quiescent Current (max.): < 40 uA standby mode; Standards: LIN 1.2, 1.3, 2, 2.1; Wake-up inputs: Bus wake-up; DatasheetVersion: Rev. 2.1; PackageVersion: Mar-07; PackageReference: PG-DSO-8-16; PackageDescription: 8-Pin Plastic (Green) Dual Small Outline Package, 4.9 x 3.9 mm Body, 1.27 mm Pitch; Supplier 1: Mouser; Supplier Part Number 1: 726-TLE62582G; Supplier 2: Digi-Key; Supplier Part Number 2: TLE6258-2GTR-ND; Supplier 3: Digi-Key; Supplier Part Number 3: TLE6258-2GCT-ND; Supplier 4: Digi-Key; Supplier Part Number 4: TLE6258-2GDKR-ND; Green: TRUE; Halogen-free: TRUE; Packing: Reel; Transmission rate (max.): 20 kbit/s; Mounting Technology: Surface Mount; ComponentLink1Description: Manufacturer URL; ComponentLink1URL: http://www.infineon.com/; ComponentLink2Description: Datasheet; ComponentLink2URL: http://www.infineon.com/dgdl/TLE6258-2G_DS_rev21_Green%5B1%5D.pdf?folderId=db3a30431ed1d7b2011edadb13813703&fileId=db3a30431ed1d7b2011edaff56f1373d&location=en.Products.Automotive_ICs.Automotive_Transceivers.LIN_Transceivers.DATASHEET.TLE6258-2G_DS_rev21_Green[1].pdf; ComponentLink3Description: Package Specification; ComponentLink3URL: http://www.infineon.com/dgdl/TLE7259-2GE_DS_rev12.pdf?folderId=db3a3043163797a6011666d32a0c0de1&fileId=db3a3043163797a6011666d4dbb80de2&location=en.Products.Automotive_ICs.Automotive_Transceivers.LIN_Transceivers.DATASHEET.TLE7259-2GE_DS_rev12.pdf
footprint INF-PG-DSO-8-16_N (SOP, 8-Leads, Body 4.9x3.9mm, Pitch 1.27mm, IPC Medium Density)
footprint INF-PG-DSO-8-16_L (SOP, 8-Leads, Body 4.9x3.9mm, Pitch 1.27mm, IPC High Density)
footprint INF-PG-DSO-8-16_M (SOP, 8-Leads, Body 4.9x3.9mm, Pitch 1.27mm, IPC Low Density)
pins: 1 RXD (out) "Receive data output; integrated pull-up, LOW in dominant state", 2 ENN (in) "Enable not input; integrated 30 k ohm pull-up, transceiver in normal operation mode when LOW", 3 VCC (power) "5 V supply input", 4 TXD (in) "Transmit data input; integrated pull-up, LOW in dominant state", 5 GND (power) "Ground", 6 BUS (io) "Bus output/input; internal 30 k ohm pull-up, LOW in dominant state", 7 VS (power) "Battery supply input", 8 NC "Not connected"

## TLE7250G
designator U?
High Speed CAN-Transceiver, 1 Mbit/s Transmission Rate, PG-DSO-8-16, Reel, Green; Manufacturer: Infineon; PartNumber: TLE7250G; Bus Wake-up capability: FALSE; Green: TRUE; Quiescent Current (max.): < 15 uA @ 5V standby; Standards: ISO11898-2; Wake-up inputs: no; DatasheetVersion: Rev. 1.0; PackageVersion: Mar-07; PackageReference: PG-DSO-8-16; PackageDescription: 8-Pin Plastic (Green) Dual Small Outline Package, 4.9 x 3.9 mm Body, 1.27 mm Pitch; Supplier 1: Mouser; Supplier Part Number 1: 726-TLE7250G; Supplier 2: Digi-Key; Supplier Part Number 2: TLE7250GTR-ND; Supplier 3: Digi-Key; Supplier Part Number 3: TLE7250GCT-ND; Supplier 4: Digi-Key; Supplier Part Number 4: TLE7250GDKR-ND; Group: High Speed; Halogen-free: TRUE; Packing: Reel; Transmission rate max: 1 Mbit/s; Mounting Technology: Surface Mount; ComponentLink1Description: Manufacturer URL; ComponentLink1URL: http://www.infineon.com/; ComponentLink2Description: Datasheet; ComponentLink2URL: http://www.infineon.com/dgdl/TLE7250G_DS_Rev10.pdf?folderId=db3a30431ed1d7b2011edadb13813703&fileId=db3a304336415dec01364ebf7fa9737a&location=en.Products.Automotive_ICs.Automotive_Transceivers.CAN_Transceivers.DATASHEET.TLE7250G_DS_Rev10.pdf; ComponentLink3Description: Package Specification; ComponentLink3URL: http://www.infineon.com/dgdl/TLE7259-2GE_DS_rev12.pdf?folderId=db3a3043163797a6011666d32a0c0de1&fileId=db3a3043163797a6011666d4dbb80de2&location=en.Products.Automotive_ICs.Automotive_Transceivers.LIN_Transceivers.DATASHEET.TLE7259-2GE_DS_rev12.pdf
footprint INF-PG-DSO-8-16_N (SOP, 8-Leads, Body 4.9x3.9mm, Pitch 1.27mm, IPC Medium Density)
footprint INF-PG-DSO-8-16_L (SOP, 8-Leads, Body 4.9x3.9mm, Pitch 1.27mm, IPC High Density)
footprint INF-PG-DSO-8-16_M (SOP, 8-Leads, Body 4.9x3.9mm, Pitch 1.27mm, IPC Low Density)
pins: 1 TXD (in) "Transmit Data Input; internal pull-up to VCC, "low" for "dominant" state.", 2 GND (power) "Ground", 3 VCC (power) "Transceiver Supply Voltage; 100 nF decoupling capacitor to GND required.", 4 RXD (out) "Receive Data Output; "low"  in "dominant" state.", 5 NRM (in) "Not Receive-only Mode Input ;  control input for selecting receive-only mode, internal pull-up, to VCC , "low" for receive-only mode.", 6 CANL (io) "CAN Bus Low Level I/O; "low" in "dominant" state.", 7 CANH (io) "CAN Bus Low Level I/O; "high" in "dominant" state.", 8 NEN (in) "Not Enable Input ;  internal pull-up to VCC ,  "low" to select normal-operation mode or receive-only mode."

## TLE7250GVIO
designator U?
High Speed CAN-Transceiver, 1 Mbit/s Transmission Rate, PG-DSO-8-16, Reel, Green; Manufacturer: Infineon; PartNumber: TLE7250GVIO; Bus Wake-up capability: FALSE; Green: TRUE; Quiescent Current (max.): < 15 uA @ 5V standby; Standards: ISO11898-2; Wake-up inputs: no; DatasheetVersion: Rev. 1.0; PackageVersion: Mar-07; PackageReference: PG-DSO-8-16; PackageDescription: 8-Pin Plastic (Green) Dual Small Outline Package, 4.9 x 3.9 mm Body, 1.27 mm Pitch; Supplier 1: Mouser; Supplier Part Number 1: 726-TLE7250GVIO; Supplier 2: Digi-Key; Supplier Part Number 2: TLE7250GVIOTR-ND; Supplier 3: Digi-Key; Supplier Part Number 3: TLE7250GVIOCT-ND; Supplier 4: Digi-Key; Supplier Part Number 4: TLE7250GVIODKR-ND; Group: High Speed; Halogen-free: TRUE; Packing: Reel; Transmission rate max: 1 Mbit/s; Mounting Technology: Surface Mount; ComponentLink1Description: Manufacturer URL; ComponentLink1URL: http://www.infineon.com/; ComponentLink2Description: Datasheet; ComponentLink2URL: http://www.infineon.com/dgdl/TLE7250GVIO_DS_Rev10.pdf?folderId=db3a30431ed1d7b2011edadb13813703&fileId=db3a304336415dec01364ec231567381&location=en.Products.Automotive_ICs.Automotive_Transceivers.CAN_Transceivers.DATASHEET.TLE7250GVIO_DS_Rev10.pdf; ComponentLink3Description: Package Specification; ComponentLink3URL: http://www.infineon.com/dgdl/TLE7259-2GE_DS_rev12.pdf?folderId=db3a3043163797a6011666d32a0c0de1&fileId=db3a3043163797a6011666d4dbb80de2&location=en.Products.Automotive_ICs.Automotive_Transceivers.LIN_Transceivers.DATASHEET.TLE7259-2GE_DS_rev12.pdf
footprint INF-PG-DSO-8-16_N (SOP, 8-Leads, Body 4.9x3.9mm, Pitch 1.27mm, IPC Medium Density)
footprint INF-PG-DSO-8-16_L (SOP, 8-Leads, Body 4.9x3.9mm, Pitch 1.27mm, IPC High Density)
footprint INF-PG-DSO-8-16_M (SOP, 8-Leads, Body 4.9x3.9mm, Pitch 1.27mm, IPC Low Density)
pins: 1 TXD (in) "Transmit Data Input; internal pull-up to VIO, "low" for "dominant" state.", 2 GND (power) "Ground", 3 VCC (power) "Transceiver Supply Voltage; 100 nF decoupling capacitor to GND required.", 4 RXD (out) "Receive Data Output; "low" for "dominant" state.", 5 VIO (power) "Digital Supply Voltage Input; supply voltage input to adapt the logical input and output voltage levels of the transceiver to the microcontroller supply. 100 nF decoupling capacitor to GND required.", 6 CANL (io) "CAN Bus Low Level I/O; "low" in "dominant" state.", 7 CANH (io) "CAN Bus High Level I/O; "high" in "dominant" state.", 8 NEN (in) "Not Enable Input ;  internal pull-up to VIO, "low" for normal-operating mode."

## TLE7257SJ
designator U?
20 kbit/s LIN Transceiver, PG-DSO-8, Reel, Green; Manufacturer: Infineon; PartNumber: TLE7257SJ; Additional Features: INH, EN; Bus Wake-up capability: TRUE; Quiescent Current (max): < 10 uA sleep mode; Wake-up inputs: Bus wake-up; DatasheetVersion: Rev. 1.0; PackageVersion: Mar-07; PackageReference: PG-DSO-8-16; PackageDescription: 8-Pin Plastic (Green) Dual Small Outline Package, 4.9 x 3.9 mm Body, 1.27 mm Pitch; Supplier 1: Mouser; Supplier Part Number 1: N/A; Green: TRUE; Halogen-free: TRUE; Packing: Reel; Transmission rate (max): 20 kbit/s; Mounting Technology: Surface Mount; ComponentLink1Description: Manufacturer URL; ComponentLink1URL: http://www.infineon.com/; ComponentLink2Description: Datasheet; ComponentLink2URL: http://www.infineon.com/dgdl/TLE7257_DS_rev10.pdf?folderId=db3a30431ed1d7b2011edadb13813703&fileId=db3a304342371bb001424713e9927334; ComponentLink3Description: Package Specification; ComponentLink3URL: http://www.infineon.com/cms/packages/SMD_-_Surface_Mounted_Devices/P-PG-DSO/P-PG-DSO-08-16x_-24x_-25x_-28x_-31x_-33x_-36x_-44x_-49.html?__locale=en
footprint INF-PG-DSO-8-16_N (SOP, 8-Leads, Body 4.9x3.9mm, Pitch 1.27mm, IPC Medium Density)
footprint INF-PG-DSO-8-16_L (SOP, 8-Leads, Body 4.9x3.9mm, Pitch 1.27mm, IPC High Density)
footprint INF-PG-DSO-8-16_M (SOP, 8-Leads, Body 4.9x3.9mm, Pitch 1.27mm, IPC Low Density)
pins: 1 RXD (oc) "Receive data output", 2 EN (in) "Enable input", 3 NC "Not Connected", 4 TXD (in) "Transmit data input", 5 GND (power) "Ground", 6 BUS (io) "Bus input / output", 7 VS (power) "Battery supply input", 8 INH (hiz) "Inhibit output"

## TLE7258SJ
designator U?
20 kbit/s LIN Transceiver, PG-DSO-8, Reel, Green; Manufacturer: Infineon; PartNumber: TLE7258SJ; Additional Features: INH, EN; Bus Wake-up capability: TRUE; Quiescent Current (max): < 10 uA sleep mode; Wake-up inputs: Bus wake-up; DatasheetVersion: Rev. 1.0; PackageVersion: Mar-07; PackageReference: PG-DSO-8-16; PackageDescription: 8-Pin Plastic (Green) Dual Small Outline Package, 4.9 x 3.9 mm Body, 1.27 mm Pitch; Green: TRUE; Halogen-free: TRUE; Packing: Reel; Transmission rate (max): 20 kbit/s; Mounting Technology: Surface Mount; ComponentLink1Description: Manufacturer URL; ComponentLink1URL: http://www.infineon.com/; ComponentLink2Description: Datasheet; ComponentLink2URL: http://www.infineon.com/dgdl/TLE7258_DS_rev10.pdf?folderId=db3a30431ed1d7b2011edadb13813703&fileId=db3a304342371bb0014247129d86732b; ComponentLink3Description: Package Specification; ComponentLink3URL: http://www.infineon.com/cms/packages/SMD_-_Surface_Mounted_Devices/P-PG-DSO/P-PG-DSO-08-16x_-24x_-25x_-28x_-31x_-33x_-36x_-44x_-49.html?__locale=en
footprint INF-PG-DSO-8-16_N (SOP, 8-Leads, Body 4.9x3.9mm, Pitch 1.27mm, IPC Medium Density)
footprint INF-PG-DSO-8-16_L (SOP, 8-Leads, Body 4.9x3.9mm, Pitch 1.27mm, IPC High Density)
footprint INF-PG-DSO-8-16_M (SOP, 8-Leads, Body 4.9x3.9mm, Pitch 1.27mm, IPC Low Density)
pins: 1 RXD (oc) "Receive data output", 2 EN (in) "Enable input", 3 NC "Not Connected", 4 TXD (in) "Transmit data input", 5 GND (power) "Ground", 6 BUS (io) "Bus input / output", 7 VS (power) "Battery supply input", 8 INH (hiz) "Inhibit output"